# Altium schematic symbol library Neon.Schlib: 1 symbol
Pins are listed as number, name and electrical type; pins without a type are passive.

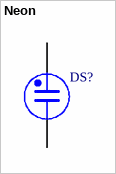
[diagram p0: symbol Neon]

## Neon
designator DS?
Neon Bulb
pins: 1, 2